# EAGLE library part DRV8302DCAR (library kanzi)
3-Phase Brushless Motor Pre-Driver with Dual Current Sense Amps and Buck Converter (PWM Ctrl) 56-HTSSOP -40 to 125
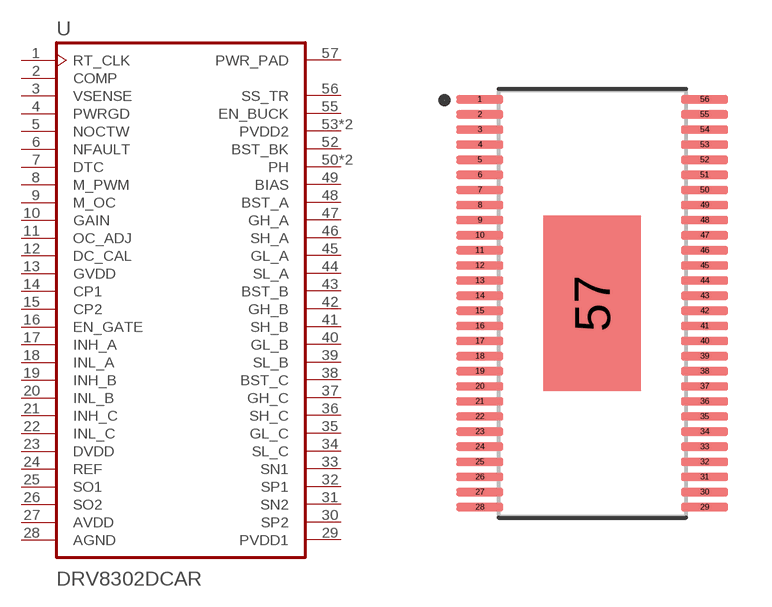
[diagram p3: symbol with the pads of SOP50P810X120-57N; footprint SOP50P810X120-57N]

Designator prefix U

## DRV8302DCAR (AVAILABILITY: Unavailable; DESCRIPTION: 3-Phase Brushless Motor Pre-Driver with Dual Current Sense Amps and Buck Converter _PWM Ctrl_ 56-HTSSOP -40 to 125; MF: Texas Instruments; MP: DRV8302DCAR; PACKAGE: HTSSOP-56 Texas Instruments; PRICE: None)  [SOP50P810X120-57N]
1  RT_CLK  in
2  COMP  out
3  VSENSE  in
4  PWRGD  in
5  NOCTW  out
6  NFAULT  out
7  DTC  in
8  M_PWM  in
9  M_OC  in
10  GAIN  out
11  OC_ADJ  in
12  DC_CAL  in
13  GVDD  pwr
14  CP1  pwr
15  CP2  pwr
16  EN_GATE  in
17  INH_A  in
18  INL_A  in
19  INH_B  in
20  INL_B  in
21  INH_C  in
22  INL_C  in
23  DVDD  pwr
24  REF  in
25  SO1  out
26  SO2  out
27  AVDD  pwr
28  AGND  pwr
29  PVDD1  pwr
30  SP2  in
31  SN2  in
32  SP1  in
33  SN1  in
34  SL_C  in
35  GL_C  out
36  SH_C  in
37  GH_C  out
38  BST_C  pwr
39  SL_B  in
40  GL_B  out
41  SH_B  in
42  GH_B  out
43  BST_B  pwr
44  SL_A  in
45  GL_A  out
46  SH_A  in
47  GH_A  out
48  BST_A  pwr
49  BIAS  in
50  PH
51  PH
52  BST_BK  pwr
53  PVDD2  pwr
54  PVDD2  pwr
55  EN_BUCK  in
56  SS_TR  in
57  PWR_PAD  pwr

## Footprint SOP50P810X120-57N (pad centres in mm)
smd 1.57 x 0.28: 1 -3.72,6.75; 2 -3.72,6.25; 3 -3.72,5.75; 4 -3.72,5.25; 5 -3.72,4.75; 6 -3.72,4.25; 7 -3.72,3.75; 8 -3.72,3.25; 9 -3.72,2.75; 10 -3.72,2.25; 11 -3.72,1.75; 12 -3.72,1.25; 13 -3.72,0.75; 14 -3.72,0.25; 15 -3.72,-0.25; 16 -3.72,-0.75; 17 -3.72,-1.25; 18 -3.72,-1.75; 19 -3.72,-2.25; 20 -3.72,-2.75; 21 -3.72,-3.25; 22 -3.72,-3.75; 23 -3.72,-4.25; 24 -3.72,-4.75; 25 -3.72,-5.25; 26 -3.72,-5.75; 27 -3.72,-6.25; 28 -3.72,-6.75; 29 3.72,-6.75; 30 3.72,-6.25; 31 3.72,-5.75; 32 3.72,-5.25; 33 3.72,-4.75; 34 3.72,-4.25; 35 3.72,-3.75; 36 3.72,-3.25; 37 3.72,-2.75; 38 3.72,-2.25; 39 3.72,-1.75; 40 3.72,-1.25; 41 3.72,-0.75; 42 3.72,-0.25; 43 3.72,0.25; 44 3.72,0.75; 45 3.72,1.25; 46 3.72,1.75; 47 3.72,2.25; 48 3.72,2.75; 49 3.72,3.25; 50 3.72,3.75; 51 3.72,4.25; 52 3.72,4.75; 53 3.72,5.25; 54 3.72,5.75; 55 3.72,6.25; 56 3.72,6.75
smd 3.235 x 5.82: 57 0,0